# Altium footprint library PE2_Footprints.PcbLib: 18 footprints (part 2 of 2)
Each footprint in its own frame and in the unit in brackets; x right, y up, seen from the top. Pads: shape width x height; smd on the part's side, far side on the other; paste and mask are expansions set on the pad; w line width, h text height; cw(c..) or ccw(c..) is an arc to the next point about the centre after c.
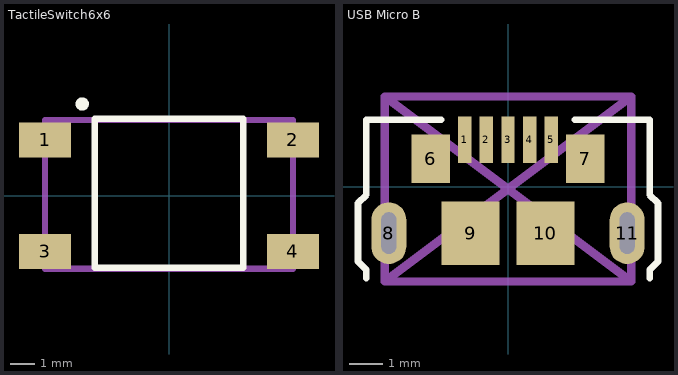
[diagram p1: the footprints below, top view; thin cyan lines are the x and y axes]

## TactileSwitch6x6 [mm]
pads (4):
  rect 2.1x1.4 smd: 1(-5,2.25) 2(5,2.25) 3(-5,-2.25) 4(5,-2.25)
Top Overlay:
  circle w0.254: c-3.5,3.7 r0.141
  lines w0.254: -3,-2.9 3,-2.9 3,3.1 -3,3.1 -3,-2.9
Mechanical 1:
  lines w0.254: -5,-2.95 5,-2.95 5,3.05 -5,3.05 -5,-2.95
3D body "User Library-FSM4JSMATR - TE Connectivity - SPST 6mm Tactile Switch.STEP": height 5.07, standoff 0.1, extent -5,-3 5,3

## USB Micro B [mm] "USB3076"
pads (11):
  rect 0.4x1.4 smd: 1(-1.3,1.4) 2(-0.65,1.4) 3(0,1.4) 4(0.65,1.4) 5(1.3,1.4)
  rect 1.15x1.45 smd: 6(-2.32,0.83) 7(2.32,0.83)
  oval 1.05x1.85 hole 1.25 slot 0.45 at 0 deg: 8(-3.575,-1.4) 11(3.575,-1.4)
  rect 1.75x1.9 smd: 9(-1.125,-1.4) 10(1.125,-1.4)
Top Overlay:
  lines w0.2: -4.25,-2.75 -4.25,-2.5 -4.5,-2.25 -4.5,-0.5 -4.25,-0.25 -4.25,2 -2,2 ; 2,2 4.25,2 4.25,-0.25 4.5,-0.5 4.5,-2.25 4.25,-2.5 4.25,-2.75
Mechanical 1:
  lines w0.254: -3.7,-2.85 3.7,-2.85 ; -3.7,-2.85 -3.7,2.7 ; -3.7,-2.85 3.7,2.7 ; -3.7,2.7 3.7,2.7 ; -3.7,2.7 3.7,-2.85 ; 3.7,-2.85 3.7,2.7
3D body "zx62d-b-5pa8_30_.stp": height 2.73, standoff -0.75, extent -4.047,-4.1 4.047,1.7